# Altium schematic symbol library RW00014SCH.SchLib: 21 symbols
Pins are listed as number, name and electrical type; pins without a type are passive.

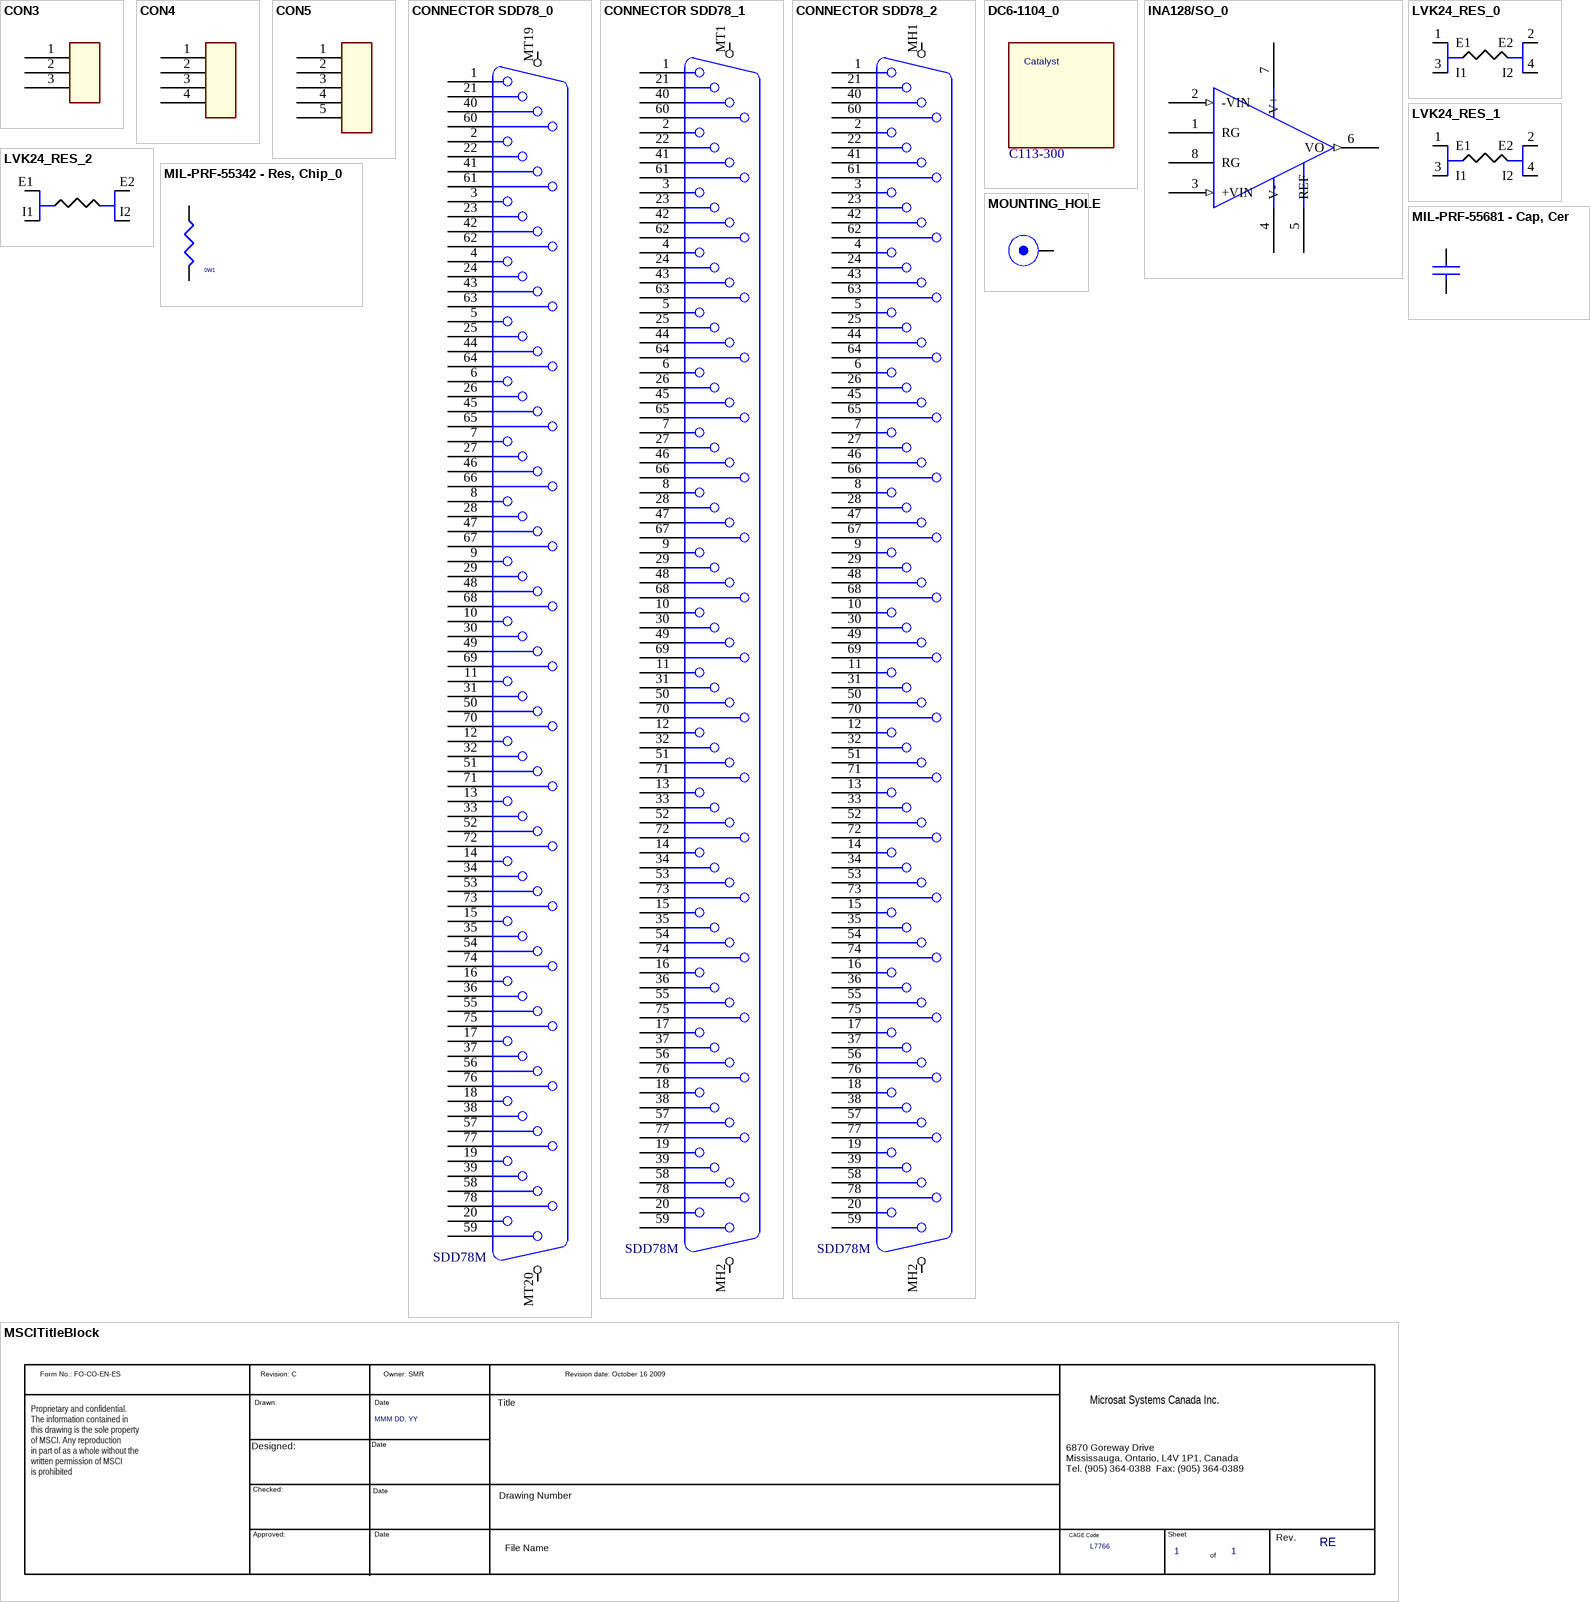
[diagram p0: symbols CON3 to MSCITitleBlock]

## CON3
designator J?
pins: 1, 2, 3

## CON4
designator J?
pins: 1, 2, 3, 4

## CON5
designator J?
pins: 1, 2, 3, 4, 5

## CONNECTOR SDD78_0
designator P?, comment SDD78M
Conn, 78-position, sockets or pins, high-density D-type; ManufName: Tyco Electronics; RoutesPartNum: NSIE-410-20600-50440-00; ManufPartNum: SDD78M4R700G; Division: 4; ProcSpec: TBS for Part; ProcType: IND; QualLevel: QPL; MaxOpTemp: 125; MinOpTemp: -55; MatDesignation: TBS for Part; MatType: TBS for Part; CVCMValue: TBS for Part; TMLValue: TBS for Part; MaxVolume: TBS for Part; MaxMass: TBS for Part; TypMass: TBS for Part; MaxStTemp: TBS for Part; MinStTemp: TBS for Part; Subcategory: 1; Category: 9
pins: 1, 2, 3, 4, 5, 6, 7, 8, 9, 10, 11, 12, 13, 14, 15, 16, 17, 18, 19, 20, 21, 22, 23, 24, 25, 26, 27, 28, 29, 30, 31, 32, 33, 34, 35, 36, 37, 38, 39, 40, 41, 42, 43, 44, 45, 46, 47, 48, 49, 50, 51, 52, 53, 54, 55, 56, 57, 58, 59, 60, 61, 62, 63, 64, 65, 66, 67, 68, 69, 70, 71, 72, 73, 74, 75, 76, 77, 78, MT19, MT20

## CONNECTOR SDD78_1
designator P?, comment SDD78M
Conn, 78-position, sockets or pins, high-density D-type; ManufName: Tyco Electronics; RoutesPartNum: NSIE-410-20600-50440-00; ManufPartNum: SDD78M4R700G; Division: 4; ProcSpec: TBS for Part; ProcType: IND; QualLevel: QPL; MaxOpTemp: 125; MinOpTemp: -55; MatDesignation: TBS for Part; MatType: TBS for Part; CVCMValue: TBS for Part; TMLValue: TBS for Part; MaxVolume: TBS for Part; MaxMass: TBS for Part; TypMass: TBS for Part; MaxStTemp: TBS for Part; MinStTemp: TBS for Part; Subcategory: 1; Category: 9
pins: 1, 2, 3, 4, 5, 6, 7, 8, 9, 10, 11, 12, 13, 14, 15, 16, 17, 18, 19, 20, 21, 22, 23, 24, 25, 26, 27, 28, 29, 30, 31, 32, 33, 34, 35, 36, 37, 38, 39, 40, 41, 42, 43, 44, 45, 46, 47, 48, 49, 50, 51, 52, 53, 54, 55, 56, 57, 58, 59, 60, 61, 62, 63, 64, 65, 66, 67, 68, 69, 70, 71, 72, 73, 74, 75, 76, 77, 78, MH2, MT1 MH1

## CONNECTOR SDD78_2
designator P?, comment SDD78M
Conn, 78-position, sockets or pins, high-density D-type; ManufName: Tyco Electronics; RoutesPartNum: NSIE-410-20600-50440-00; ManufPartNum: SDD78M4R700G; Division: 4; ProcSpec: TBS for Part; ProcType: IND; QualLevel: QPL; MaxOpTemp: 125; MinOpTemp: -55; MatDesignation: TBS for Part; MatType: TBS for Part; CVCMValue: TBS for Part; TMLValue: TBS for Part; MaxVolume: TBS for Part; MaxMass: TBS for Part; TypMass: TBS for Part; MaxStTemp: TBS for Part; MinStTemp: TBS for Part; Subcategory: 1; Category: 9
pins: 1, 2, 3, 4, 5, 6, 7, 8, 9, 10, 11, 12, 13, 14, 15, 16, 17, 18, 19, 20, 21, 22, 23, 24, 25, 26, 27, 28, 29, 30, 31, 32, 33, 34, 35, 36, 37, 38, 39, 40, 41, 42, 43, 44, 45, 46, 47, 48, 49, 50, 51, 52, 53, 54, 55, 56, 57, 58, 59, 60, 61, 62, 63, 64, 65, 66, 67, 68, 69, 70, 71, 72, 73, 74, 75, 76, 77, 78, MH1, MH2

## DC6-1104_0
designator ZMAT?, comment C113-300
Staking Catalyst; RoutesPartNum: NSIE-530-DC600-11040-00; ManufName: Chempoint; PartTitle: Material, Staking; TMLValue: 0.18%; CVCMValue: 0.03%; ManufPartNum: C113-300
text: Catalyst

## INA128/SO_0
designator U?
pins: 1 RG, 2 -VIN (in), 3 +VIN (in), 4 V-, 5 REF, 6 VO (out), 7 V+, 8 RG

## LVK24_RES_0
designator RS?
footprint LVK24
pins: 1 E1, 2 E2, 3 I1, 4 I2

## LVK24_RES_1
designator RS?
Manufacturer: Vishay Foil Resistors
footprint LVK24
pins: 1 E1, 2 E2, 3 I1, 4 I2

## LVK24_RES_2
designator RS?
Manufacturer: Vishay Foil Resistors
footprint LVK24
pins: E1, E2, I1, I2

## MIL-PRF-55342 - Res, Chip_0
designator R?  Power: 0W1
Chip resistor, SMD; ManufPartNum: TBS for Part; RoutesPartNum: NSIE-310-MMMMM-EEEEE-XX; ManufName: Panasonic; MinOpTemp: -55; MaxOpTemp: 155; QualLevel: NA; ProcType: IND; Category: 3; Subcategory: 2; MaxPowerRating: TBS for Part; MaxOpsVoltage: TBS for Part; MinStTemp: TBS for Part; MaxStTemp: TBS for Part; MaxOpCurrent: TBS for Part; TypOpCurrent: TBS for Part; TypOpVoltage: TBS for Part; TypPwrDiss: TBS for Part; MaxPwrDiss: TBS for Part; TypMass: TBS for Part; MaxMass: TBS for Part; MaxVolume: TBS for Part; TMLValue: TBS for Part; CVCMValue: TBS for Part; MatType: TBS for Part; MatDesignation: TBS for Part; ProcSpec: TBS for Part
pins: 1, 2

## MIL-PRF-55681 - Cap, Cer
designator C?
Chip capacitor, Ceramic; ManufPartNum: TBS for Part; RoutesPartNum: NSIE-311-MMMMM-EEEEE-XX; ManufName: Vishay, Kemet, AVX; MinOpTemp: -55; MaxOpTemp: 125; QualLevel: NA; ProcType: IND; Category: 4; Subcategory: 3; MaxVoltageRating: TBS for Part; MaxOpsVoltage: TBS for Part; MinStTemp: TBS for Part; MaxStTemp: TBS for Part; TypOpVoltage: TBS for Part; TypMass: TBS for Part; MaxMass: TBS for Part; MaxVolume: TBS for Part; TMLValue: TBS for Part; CVCMValue: TBS for Part; MatType: TBS for Part; MatDesignation: TBS for Part; ProcSpec: TBS for Part
pins: 1, 2

## MOUNTING_HOLE
designator MT?  (value not drawn)
footprint see guidelines
pins: 1 CENTER

## MSCITitleBlock
designator *  DWN_Date: MMM DD, YY  Cage Code: L7766  Page Count: 1  RevCode: RE  (hidden comment: *)  (graphical)
Fabrication Dwg No: FABDWGNO; Assy Dwg No: ASSYDWGNO; Drawn: DN; Page Size: A; Checked: CHK; Approved: APV; Product_Name: PRODUCT NAME; Page Number: 1; Page Create Date: March  8, 1995; CHK_Date: MMM DD, YY; APV_Date: MMM DD, YY
text: Form No.: FO-CO-EN-ES; Revision: C; Owner: SMR; Revision date: October 16 2009; Proprietary and confidential. / The information contained in / this drawing is the sole property / of MSCI. Any reproduction / in part of as a whole without the / written permission of MSCI / is prohibited; Drawn:; Date; Title; Microsat Systems Canada Inc.; 6870 Goreway Drive / Mississauga, Ontario, L4V 1P1, Canada / Tel. (905) 364-0388  Fax: (905) 364-0389; Designed:; Checked:; Drawing Number; Approved:; CAGE Code; Sheet; Rev.; File Name; of

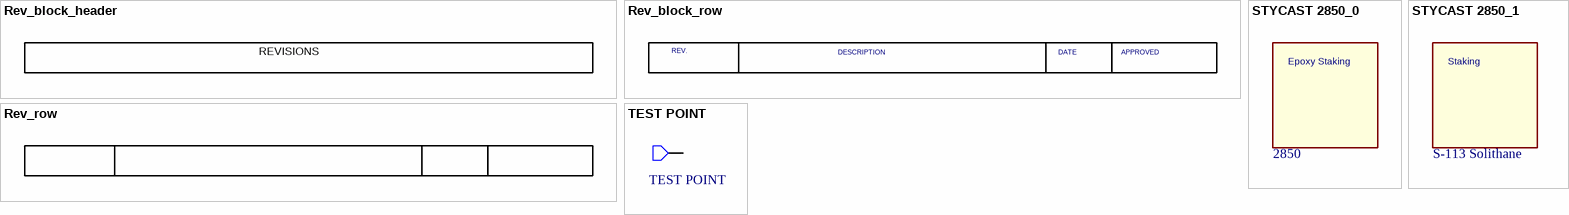
[diagram p1: symbols Rev_block_header to TEST POINT]

## Rev_block_header
designator *  (value not drawn)  (graphical)
REV LETTER: REV.; Rev Record: DESCRIPTION; Date: DATE; Drawn by: dw; Checked by: ch; Approved by: APPROVED
text: REVISIONS

## Rev_block_row
designator *  REV LETTER: REV.  Rev Record: DESCRIPTION  Approved by: APPROVED  (hidden comment: *)  (graphical)
Date: DATE; Drawn by: dw; Checked by: ch

## Rev_row
designator *  (value not drawn)  (graphical)
Rev Record: DESCRIPTION; REV LETTER: REV.; Approved by: APPROVED; Checked by: ch; Drawn by: dw; Date: DATE

## STYCAST 2850_0
designator ZMAT?, comment 2850
Epoxy, Stycast 2850; RoutesPartNum: NSIE-530-28500-00000-00; ManufName: Ellsworth Adhesives Canada; PartTitle: Material, Adhesive; ManufPartNum: Stycast 2850 & Cat 9; TMLValue: 0.38%; CVCMValue: 0.01%
text: Epoxy Staking

## STYCAST 2850_1
designator ZMAT?, comment S-113 Solithane
Staking Compound; RoutesPartNum: NSIE-530-28500-00000-00; ManufName: Chempoint; PartTitle: Material, Staking; TMLValue: 0.38%; CVCMValue: 0.01%; ManufPartNum: S-113 Solithane
text: Staking

## TEST POINT
designator TP?
pins: 1 TP